# EAGLE library part Z8F2480 (library PATSKO)
Zilog Z8F2480 MCU Zilog Z8F2480, 28 pin package
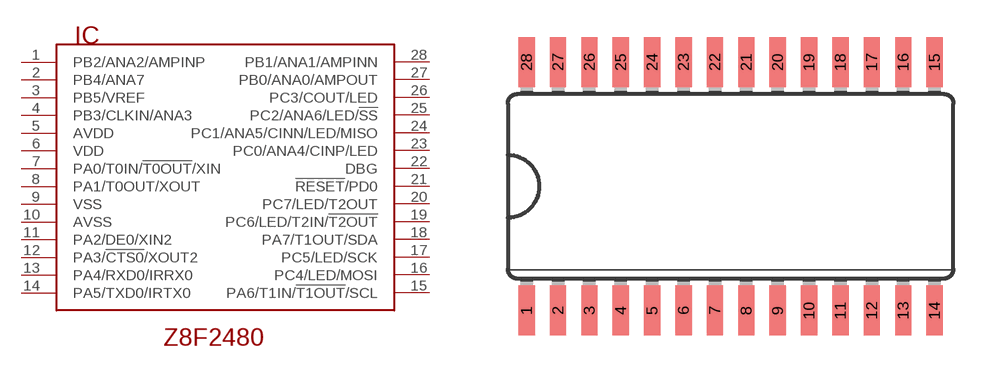
[diagram p3: symbol with the pads of SO28W; footprint SO28W]

Designator prefix IC

## Z8F2480SO  [SO28W]
1  PB2/ANA2/AMPINP
2  PB4/ANA7
3  PB5/VREF
4  PB3/CLKIN/ANA3
5  AVDD
6  VDD  sup
7  PA0/T0IN/!T0OUT!/XIN
8  PA1/T0OUT/XOUT
9  VSS  sup
10  AVSS
11  PA2/DE0/XIN2
12  PA3/!CTS0!/XOUT2
13  PA4/RXD0/IRRX0
14  PA5/TXD0/IRTX0
15  PA6/T1IN/!T1OUT!/SCL
16  PC4/LED/MOSI
17  PC5/LED/SCK
18  PA7/T1OUT/SDA
19  PC6/LED/T2IN/!T2OUT!
20  PC7/LED/T2OUT
21  !RESET!/PD0
22  DBG
23  PC0/ANA4/CINP/LED
24  PC1/ANA5/CINN/LED/MISO
25  PC2/ANA6/LED/!SS
26  PC3/COUT/LED
27  PB0/ANA0/AMPOUT
28  PB1/ANA1/AMPINN

## Footprint SO28W (pad centres in mm)
Small Outline Package 28 wide
smd 0.66 x 2.032: 1 -8.255,-5.029; 2 -6.985,-5.029; 3 -5.715,-5.029; 4 -4.445,-5.029; 5 -3.175,-5.029; 6 -1.905,-5.029; 7 -0.635,-5.029; 8 0.635,-5.029; 9 1.905,-5.029; 10 3.175,-5.029; 11 4.445,-5.029; 12 5.715,-5.029; 13 6.985,-5.029; 14 8.255,-5.029; 15 8.255,5.029; 16 6.985,5.029; 17 5.715,5.029; 18 4.445,5.029; 19 3.175,5.029; 20 1.905,5.029; 21 0.635,5.029; 22 -0.635,5.029; 23 -1.905,5.029; 24 -3.175,5.029; 25 -4.445,5.029; 26 -5.715,5.029; 27 -6.985,5.029; 28 -8.255,5.029